# EAGLE library part TFP401APZP (library SchlegelAr_Master)
TFP401APZP last modified: Armin Schlegel, 19.03.2014 http://de.mouser.com/ProductDetail/Texas-Instruments/TFP401APZP/?qs=sGAEpiMZZMvzx35sqAbYyS%2FHXqUWhI80Lx8TsthrfGA%3D http://www.mouser.com/ds/2/405/slds120e-285347.pdf
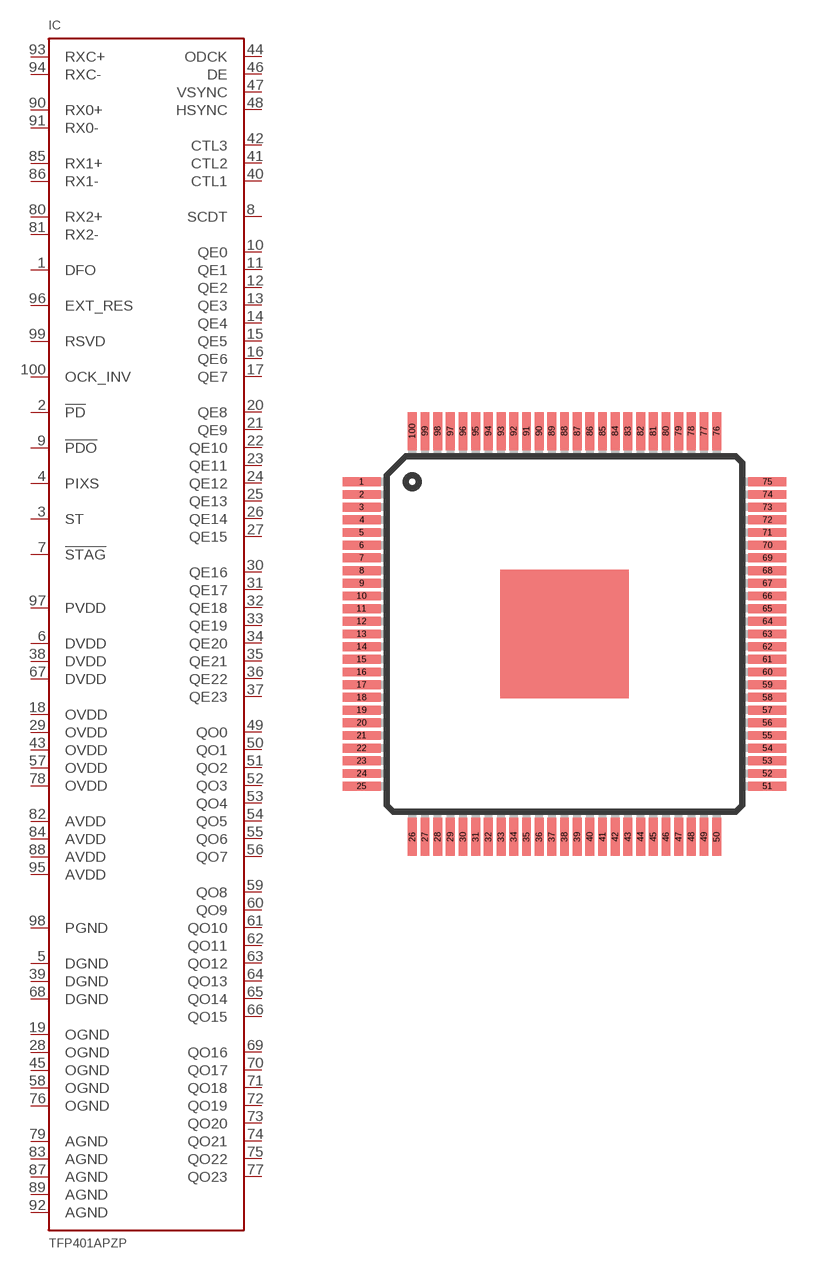
[diagram p2: symbol with the pads of HTQFP-100; footprint HTQFP-100]

Designator prefix IC

## TFP401APZP  [HTQFP-100]
1  DFO
2  !PD
3  ST
4  PIXS
5  DGND  pwr
6  DVDD  pwr
7  !STAG
8  SCDT
9  !PDO
10  QE0
11  QE1
12  QE2
13  QE3
14  QE4
15  QE5
16  QE6
17  QE7
18  OVDD  pwr
19  OGND  pwr
20  QE8
21  QE9
22  QE10
23  QE11
24  QE12
25  QE13
26  QE14
27  QE15
28  OGND  pwr
29  OVDD  pwr
30  QE16
31  QE17
32  QE18
33  QE19
34  QE20
35  QE21
36  QE22
37  QE23
38  DVDD  pwr
39  DGND  pwr
40  CTL1
41  CTL2
42  CTL3
43  OVDD  pwr
44  ODCK
45  OGND  pwr
46  DE
47  VSYNC
48  HSYNC
49  QO0
50  QO1
51  QO2
52  QO3
53  QO4
54  QO5
55  QO6
56  QO7
57  OVDD  pwr
58  OGND  pwr
59  QO8
60  QO9
61  QO10
62  QO11
63  QO12
64  QO13
65  QO14
66  QO15
67  DVDD  pwr
68  DGND  pwr
69  QO16
70  QO17
71  QO18
72  QO19
73  QO20
74  QO21
75  QO22
76  OGND  pwr
77  QO23
78  OVDD  pwr
79  AGND  pwr
80  RX2+
81  RX2-
82  AVDD  pwr
83  AGND  pwr
84  AVDD  pwr
85  RX1+
86  RX1-
87  AGND  pwr
88  AVDD  pwr
89  AGND  pwr
90  RX0+
91  RX0-
92  AGND  pwr
93  RXC+
94  RXC-
95  AVDD  pwr
96  EXT_RES
97  PVDD  pwr
98  PGND  pwr
99  RSVD
100  OCK_INV

## Footprint HTQFP-100 (pad centres in mm)
smd 1.5 x 0.35: 1 -8,6; 2 -8,5.5; 3 -8,5; 4 -8,4.5; 5 -8,4; 6 -8,3.5; 7 -8,3; 8 -8,2.5; 9 -8,2; 10 -8,1.5; 11 -8,1; 12 -8,0.5; 13 -8,0; 14 -8,-0.5; 15 -8,-1; 16 -8,-1.5; 17 -8,-2; 18 -8,-2.5; 19 -8,-3; 20 -8,-3.5; 21 -8,-4; 22 -8,-4.5; 23 -8,-5; 24 -8,-5.5; 25 -8,-6; 51 8,-6; 52 8,-5.5; 53 8,-5; 54 8,-4.5; 55 8,-4; 56 8,-3.5; 57 8,-3; 58 8,-2.5; 59 8,-2; 60 8,-1.5; 61 8,-1; 62 8,-0.5; 63 8,0; 64 8,0.5; 65 8,1; 66 8,1.5; 67 8,2; 68 8,2.5; 69 8,3; 70 8,3.5; 71 8,4; 72 8,4.5; 73 8,5; 74 8,5.5; 75 8,6
smd 0.35 x 1.5: 26 -6,-8; 27 -5.5,-8; 28 -5,-8; 29 -4.5,-8; 30 -4,-8; 31 -3.5,-8; 32 -3,-8; 33 -2.5,-8; 34 -2,-8; 35 -1.5,-8; 36 -1,-8; 37 -0.5,-8; 38 0,-8; 39 0.5,-8; 40 1,-8; 41 1.5,-8; 42 2,-8; 43 2.5,-8; 44 3,-8; 45 3.5,-8; 46 4,-8; 47 4.5,-8; 48 5,-8; 49 5.5,-8; 50 6,-8; 76 6,8; 77 5.5,8; 78 5,8; 79 4.5,8; 80 4,8; 81 3.5,8; 82 3,8; 83 2.5,8; 84 2,8; 85 1.5,8; 86 1,8; 87 0.5,8; 88 0,8; 89 -0.5,8; 90 -1,8; 91 -1.5,8; 92 -2,8; 93 -2.5,8; 94 -3,8; 95 -3.5,8; 96 -4,8; 97 -4.5,8; 98 -5,8; 99 -5.5,8; 100 -6,8